# Altium integrated library Cypress PLD Flash370i.IntLib: 84 symbols (part 1 of 4)
Pins are listed as number, name and electrical type; pins without a type are passive.

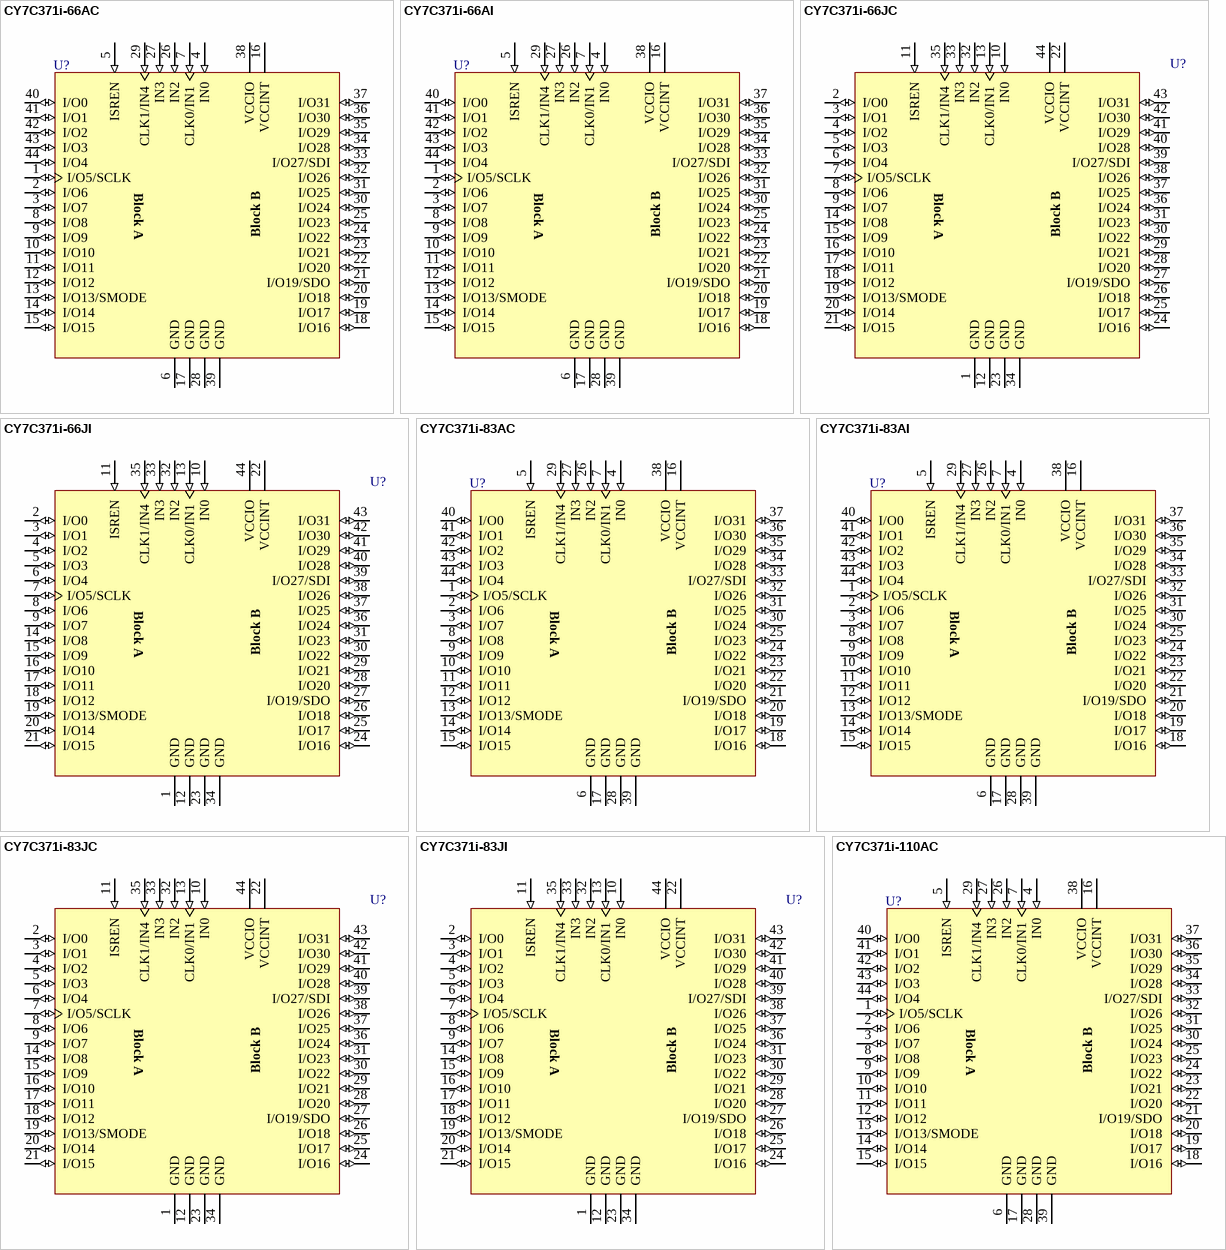
[diagram p0: symbols CY7C371i-66AC to CY7C371i-110AC]

## CY7C371i-66AC
designator U?
Ultralogic 32-Macrocell Flash CPLD; Published: 11-Dec-2002; LatestRevisionDate: 13-Apr-2006; LatestRevisionNote: IPC-7351 Footprint Added.; DatasheetVersion: 10-Jul-2000; PackageVersion: Mar-2002; PackageReference: A44; Publisher: Altium Limited; PackageDescription: 44-Pin Thin Plastic Quad Flat Pack 0.8 mm Pitch; ComponentLink1Description: Manufacturer Link; ComponentLink1URL: http://www.cypress.com/
footprint A44_N (Thin QFP, 44-Leads, Body 10x10mm, Pitch 0.8mm, IPC Medium Density)
footprint A44_L (Thin QFP, 44-Leads, Body 10x10mm, Pitch 0.8mm, IPC High Density)
footprint A44_M (Thin QFP, 44-Leads, Body 10x10mm, Pitch 0.8mm, IPC Low Density)
3D model CY7C371i-A44 (44-Pin Thin Plastic Quad Flat Pack 0.8 mm Pitch)
pins: 1 I/O5/SCLK (io), 2 I/O6 (io), 3 I/O7 (io), 4 IN0 (in), 5 ISREN (in), 6 GND (power), 7 CLK0/IN1 (in), 8 I/O8 (io), 9 I/O9 (io), 10 I/O10 (io), 11 I/O11 (io), 12 I/O12 (io), 13 I/O13/SMODE (io), 14 I/O14 (io), 15 I/O15 (io), 16 VCCINT (power), 17 GND (power), 18 I/O16 (io), 19 I/O17 (io), 20 I/O18 (io), 21 I/O19/SDO (io), 22 I/O20 (io), 23 I/O21 (io), 24 I/O22 (io), 25 I/O23 (io), 26 IN2 (in), 27 IN3 (in), 28 GND (power), 29 CLK1/IN4 (in), 30 I/O24 (io), 31 I/O25 (io), 32 I/O26 (io), 33 I/O27/SDI (io), 34 I/O28 (io), 35 I/O29 (io), 36 I/O30 (io), 37 I/O31 (io), 38 VCCIO (power), 39 GND (power), 40 I/O0 (io), 41 I/O1 (io), 42 I/O2 (io), 43 I/O3 (io), 44 I/O4 (io)
text: Block A; Block B

## CY7C371i-66AI
designator U?
Ultralogic 32-Macrocell Flash CPLD; Published: 11-Dec-2002; LatestRevisionDate: 13-Apr-2006; LatestRevisionNote: IPC-7351 Footprint Added.; DatasheetVersion: 10-Jul-2000; PackageVersion: Mar-2002; PackageReference: A44; Publisher: Altium Limited; PackageDescription: 44-Pin Thin Plastic Quad Flat Pack 0.8 mm Pitch; ComponentLink1Description: Manufacturer Link; ComponentLink1URL: http://www.cypress.com/
footprint A44_N (Thin QFP, 44-Leads, Body 10x10mm, Pitch 0.8mm, IPC Medium Density)
footprint A44_L (Thin QFP, 44-Leads, Body 10x10mm, Pitch 0.8mm, IPC High Density)
footprint A44_M (Thin QFP, 44-Leads, Body 10x10mm, Pitch 0.8mm, IPC Low Density)
3D model CY7C371i-A44 (44-Pin Thin Plastic Quad Flat Pack 0.8 mm Pitch)
pins: 1 I/O5/SCLK (io), 2 I/O6 (io), 3 I/O7 (io), 4 IN0 (in), 5 ISREN (in), 6 GND (power), 7 CLK0/IN1 (in), 8 I/O8 (io), 9 I/O9 (io), 10 I/O10 (io), 11 I/O11 (io), 12 I/O12 (io), 13 I/O13/SMODE (io), 14 I/O14 (io), 15 I/O15 (io), 16 VCCINT (power), 17 GND (power), 18 I/O16 (io), 19 I/O17 (io), 20 I/O18 (io), 21 I/O19/SDO (io), 22 I/O20 (io), 23 I/O21 (io), 24 I/O22 (io), 25 I/O23 (io), 26 IN2 (in), 27 IN3 (in), 28 GND (power), 29 CLK1/IN4 (in), 30 I/O24 (io), 31 I/O25 (io), 32 I/O26 (io), 33 I/O27/SDI (io), 34 I/O28 (io), 35 I/O29 (io), 36 I/O30 (io), 37 I/O31 (io), 38 VCCIO (power), 39 GND (power), 40 I/O0 (io), 41 I/O1 (io), 42 I/O2 (io), 43 I/O3 (io), 44 I/O4 (io)
text: Block A; Block B

## CY7C371i-66JC
designator U?
Ultralogic 32-Macrocell Flash CPLD; Published: 11-Dec-2002; LatestRevisionDate: 13-Apr-2006; LatestRevisionNote: IPC-7351 Footprint Added.; DatasheetVersion: 10-Jul-2000; PackageVersion: Mar-2001; PackageReference: J67; Publisher: Altium Limited; PackageDescription: 44-Pin Plastic Leaded Chip Carrier 1.27 mm Pitch; ComponentLink1Description: Manufacturer Link; ComponentLink1URL: http://www.cypress.com/
footprint J67_N (Leaded Chip Carrier, 44-Leads, Body 16.6x16.6mm, Pitch 1.27mm, IPC Medium Density)
footprint J67_L (Leaded Chip Carrier, 44-Leads, Body 16.6x16.6mm, Pitch 1.27mm, IPC High Density)
footprint J67_M (Leaded Chip Carrier, 44-Leads, Body 16.6x16.6mm, Pitch 1.27mm, IPC Low Density)
3D model CY7C371i-J67 (44-Pin Plastic Leaded Chip Carrier 1.27 mm Pitch)
pins: 1 GND (power), 2 I/O0 (io), 3 I/O1 (io), 4 I/O2 (io), 5 I/O3 (io), 6 I/O4 (io), 7 I/O5/SCLK (io), 8 I/O6 (io), 9 I/O7 (io), 10 IN0 (in), 11 ISREN (in), 12 GND (power), 13 CLK0/IN1 (in), 14 I/O8 (io), 15 I/O9 (io), 16 I/O10 (io), 17 I/O11 (io), 18 I/O12 (io), 19 I/O13/SMODE (io), 20 I/O14 (io), 21 I/O15 (io), 22 VCCINT (power), 23 GND (power), 24 I/O16 (io), 25 I/O17 (io), 26 I/O18 (io), 27 I/O19/SDO (io), 28 I/O20 (io), 29 I/O21 (io), 30 I/O22 (io), 31 I/O23 (io), 32 IN2 (in), 33 IN3 (in), 34 GND (power), 35 CLK1/IN4 (in), 36 I/O24 (io), 37 I/O25 (io), 38 I/O26 (io), 39 I/O27/SDI (io), 40 I/O28 (io), 41 I/O29 (io), 42 I/O30 (io), 43 I/O31 (io), 44 VCCIO (power)
text: Block A; Block B

## CY7C371i-66JI
designator U?
Ultralogic 32-Macrocell Flash CPLD; Published: 11-Dec-2002; LatestRevisionDate: 13-Apr-2006; LatestRevisionNote: IPC-7351 Footprint Added.; DatasheetVersion: 10-Jul-2000; PackageVersion: Mar-2001; PackageReference: J67; Publisher: Altium Limited; PackageDescription: 44-Pin Plastic Leaded Chip Carrier 1.27 mm Pitch; ComponentLink1Description: Manufacturer Link; ComponentLink1URL: http://www.cypress.com/
footprint J67_N (Leaded Chip Carrier, 44-Leads, Body 16.6x16.6mm, Pitch 1.27mm, IPC Medium Density)
footprint J67_L (Leaded Chip Carrier, 44-Leads, Body 16.6x16.6mm, Pitch 1.27mm, IPC High Density)
footprint J67_M (Leaded Chip Carrier, 44-Leads, Body 16.6x16.6mm, Pitch 1.27mm, IPC Low Density)
3D model CY7C371i-J67 (44-Pin Plastic Leaded Chip Carrier 1.27 mm Pitch)
pins: 1 GND (power), 2 I/O0 (io), 3 I/O1 (io), 4 I/O2 (io), 5 I/O3 (io), 6 I/O4 (io), 7 I/O5/SCLK (io), 8 I/O6 (io), 9 I/O7 (io), 10 IN0 (in), 11 ISREN (in), 12 GND (power), 13 CLK0/IN1 (in), 14 I/O8 (io), 15 I/O9 (io), 16 I/O10 (io), 17 I/O11 (io), 18 I/O12 (io), 19 I/O13/SMODE (io), 20 I/O14 (io), 21 I/O15 (io), 22 VCCINT (power), 23 GND (power), 24 I/O16 (io), 25 I/O17 (io), 26 I/O18 (io), 27 I/O19/SDO (io), 28 I/O20 (io), 29 I/O21 (io), 30 I/O22 (io), 31 I/O23 (io), 32 IN2 (in), 33 IN3 (in), 34 GND (power), 35 CLK1/IN4 (in), 36 I/O24 (io), 37 I/O25 (io), 38 I/O26 (io), 39 I/O27/SDI (io), 40 I/O28 (io), 41 I/O29 (io), 42 I/O30 (io), 43 I/O31 (io), 44 VCCIO (power)
text: Block A; Block B

## CY7C371i-83AC
designator U?
Ultralogic 32-Macrocell Flash CPLD; Published: 11-Dec-2002; LatestRevisionDate: 13-Apr-2006; LatestRevisionNote: IPC-7351 Footprint Added.; DatasheetVersion: 10-Jul-2000; PackageVersion: Mar-2002; PackageReference: A44; Publisher: Altium Limited; PackageDescription: 44-Pin Thin Plastic Quad Flat Pack 0.8 mm Pitch; ComponentLink1Description: Manufacturer Link; ComponentLink1URL: http://www.cypress.com/
footprint A44_N (Thin QFP, 44-Leads, Body 10x10mm, Pitch 0.8mm, IPC Medium Density)
footprint A44_L (Thin QFP, 44-Leads, Body 10x10mm, Pitch 0.8mm, IPC High Density)
footprint A44_M (Thin QFP, 44-Leads, Body 10x10mm, Pitch 0.8mm, IPC Low Density)
3D model CY7C371i-A44 (44-Pin Thin Plastic Quad Flat Pack 0.8 mm Pitch)
pins: 1 I/O5/SCLK (io), 2 I/O6 (io), 3 I/O7 (io), 4 IN0 (in), 5 ISREN (in), 6 GND (power), 7 CLK0/IN1 (in), 8 I/O8 (io), 9 I/O9 (io), 10 I/O10 (io), 11 I/O11 (io), 12 I/O12 (io), 13 I/O13/SMODE (io), 14 I/O14 (io), 15 I/O15 (io), 16 VCCINT (power), 17 GND (power), 18 I/O16 (io), 19 I/O17 (io), 20 I/O18 (io), 21 I/O19/SDO (io), 22 I/O20 (io), 23 I/O21 (io), 24 I/O22 (io), 25 I/O23 (io), 26 IN2 (in), 27 IN3 (in), 28 GND (power), 29 CLK1/IN4 (in), 30 I/O24 (io), 31 I/O25 (io), 32 I/O26 (io), 33 I/O27/SDI (io), 34 I/O28 (io), 35 I/O29 (io), 36 I/O30 (io), 37 I/O31 (io), 38 VCCIO (power), 39 GND (power), 40 I/O0 (io), 41 I/O1 (io), 42 I/O2 (io), 43 I/O3 (io), 44 I/O4 (io)
text: Block A; Block B

## CY7C371i-83AI
designator U?
Ultralogic 32-Macrocell Flash CPLD; Published: 11-Dec-2002; LatestRevisionDate: 13-Apr-2006; LatestRevisionNote: IPC-7351 Footprint Added.; DatasheetVersion: 10-Jul-2000; PackageVersion: Mar-2002; PackageReference: A44; Publisher: Altium Limited; PackageDescription: 44-Pin Thin Plastic Quad Flat Pack 0.8 mm Pitch; ComponentLink1Description: Manufacturer Link; ComponentLink1URL: http://www.cypress.com/
footprint A44_N (Thin QFP, 44-Leads, Body 10x10mm, Pitch 0.8mm, IPC Medium Density)
footprint A44_L (Thin QFP, 44-Leads, Body 10x10mm, Pitch 0.8mm, IPC High Density)
footprint A44_M (Thin QFP, 44-Leads, Body 10x10mm, Pitch 0.8mm, IPC Low Density)
3D model CY7C371i-A44 (44-Pin Thin Plastic Quad Flat Pack 0.8 mm Pitch)
pins: 1 I/O5/SCLK (io), 2 I/O6 (io), 3 I/O7 (io), 4 IN0 (in), 5 ISREN (in), 6 GND (power), 7 CLK0/IN1 (in), 8 I/O8 (io), 9 I/O9 (io), 10 I/O10 (io), 11 I/O11 (io), 12 I/O12 (io), 13 I/O13/SMODE (io), 14 I/O14 (io), 15 I/O15 (io), 16 VCCINT (power), 17 GND (power), 18 I/O16 (io), 19 I/O17 (io), 20 I/O18 (io), 21 I/O19/SDO (io), 22 I/O20 (io), 23 I/O21 (io), 24 I/O22 (io), 25 I/O23 (io), 26 IN2 (in), 27 IN3 (in), 28 GND (power), 29 CLK1/IN4 (in), 30 I/O24 (io), 31 I/O25 (io), 32 I/O26 (io), 33 I/O27/SDI (io), 34 I/O28 (io), 35 I/O29 (io), 36 I/O30 (io), 37 I/O31 (io), 38 VCCIO (power), 39 GND (power), 40 I/O0 (io), 41 I/O1 (io), 42 I/O2 (io), 43 I/O3 (io), 44 I/O4 (io)
text: Block A; Block B

## CY7C371i-83JC
designator U?
Ultralogic 32-Macrocell Flash CPLD; Published: 11-Dec-2002; LatestRevisionDate: 13-Apr-2006; LatestRevisionNote: IPC-7351 Footprint Added.; DatasheetVersion: 10-Jul-2000; PackageVersion: Mar-2001; PackageReference: J67; Publisher: Altium Limited; PackageDescription: 44-Pin Plastic Leaded Chip Carrier 1.27 mm Pitch; ComponentLink1Description: Manufacturer Link; ComponentLink1URL: http://www.cypress.com/
footprint J67_N (Leaded Chip Carrier, 44-Leads, Body 16.6x16.6mm, Pitch 1.27mm, IPC Medium Density)
footprint J67_L (Leaded Chip Carrier, 44-Leads, Body 16.6x16.6mm, Pitch 1.27mm, IPC High Density)
footprint J67_M (Leaded Chip Carrier, 44-Leads, Body 16.6x16.6mm, Pitch 1.27mm, IPC Low Density)
3D model CY7C371i-J67 (44-Pin Plastic Leaded Chip Carrier 1.27 mm Pitch)
pins: 1 GND (power), 2 I/O0 (io), 3 I/O1 (io), 4 I/O2 (io), 5 I/O3 (io), 6 I/O4 (io), 7 I/O5/SCLK (io), 8 I/O6 (io), 9 I/O7 (io), 10 IN0 (in), 11 ISREN (in), 12 GND (power), 13 CLK0/IN1 (in), 14 I/O8 (io), 15 I/O9 (io), 16 I/O10 (io), 17 I/O11 (io), 18 I/O12 (io), 19 I/O13/SMODE (io), 20 I/O14 (io), 21 I/O15 (io), 22 VCCINT (power), 23 GND (power), 24 I/O16 (io), 25 I/O17 (io), 26 I/O18 (io), 27 I/O19/SDO (io), 28 I/O20 (io), 29 I/O21 (io), 30 I/O22 (io), 31 I/O23 (io), 32 IN2 (in), 33 IN3 (in), 34 GND (power), 35 CLK1/IN4 (in), 36 I/O24 (io), 37 I/O25 (io), 38 I/O26 (io), 39 I/O27/SDI (io), 40 I/O28 (io), 41 I/O29 (io), 42 I/O30 (io), 43 I/O31 (io), 44 VCCIO (power)
text: Block A; Block B

## CY7C371i-83JI
designator U?
Ultralogic 32-Macrocell Flash CPLD; Published: 11-Dec-2002; LatestRevisionDate: 13-Apr-2006; LatestRevisionNote: IPC-7351 Footprint Added.; DatasheetVersion: 10-Jul-2000; PackageVersion: Mar-2001; PackageReference: J67; Publisher: Altium Limited; PackageDescription: 44-Pin Plastic Leaded Chip Carrier 1.27 mm Pitch; ComponentLink1Description: Manufacturer Link; ComponentLink1URL: http://www.cypress.com/
footprint J67_N (Leaded Chip Carrier, 44-Leads, Body 16.6x16.6mm, Pitch 1.27mm, IPC Medium Density)
footprint J67_L (Leaded Chip Carrier, 44-Leads, Body 16.6x16.6mm, Pitch 1.27mm, IPC High Density)
footprint J67_M (Leaded Chip Carrier, 44-Leads, Body 16.6x16.6mm, Pitch 1.27mm, IPC Low Density)
3D model CY7C371i-J67 (44-Pin Plastic Leaded Chip Carrier 1.27 mm Pitch)
pins: 1 GND (power), 2 I/O0 (io), 3 I/O1 (io), 4 I/O2 (io), 5 I/O3 (io), 6 I/O4 (io), 7 I/O5/SCLK (io), 8 I/O6 (io), 9 I/O7 (io), 10 IN0 (in), 11 ISREN (in), 12 GND (power), 13 CLK0/IN1 (in), 14 I/O8 (io), 15 I/O9 (io), 16 I/O10 (io), 17 I/O11 (io), 18 I/O12 (io), 19 I/O13/SMODE (io), 20 I/O14 (io), 21 I/O15 (io), 22 VCCINT (power), 23 GND (power), 24 I/O16 (io), 25 I/O17 (io), 26 I/O18 (io), 27 I/O19/SDO (io), 28 I/O20 (io), 29 I/O21 (io), 30 I/O22 (io), 31 I/O23 (io), 32 IN2 (in), 33 IN3 (in), 34 GND (power), 35 CLK1/IN4 (in), 36 I/O24 (io), 37 I/O25 (io), 38 I/O26 (io), 39 I/O27/SDI (io), 40 I/O28 (io), 41 I/O29 (io), 42 I/O30 (io), 43 I/O31 (io), 44 VCCIO (power)
text: Block A; Block B

## CY7C371i-110AC
designator U?
Ultralogic 32-Macrocell Flash CPLD; Published: 11-Dec-2002; LatestRevisionDate: 13-Apr-2006; LatestRevisionNote: IPC-7351 Footprint Added.; DatasheetVersion: 10-Jul-2000; PackageVersion: Mar-2002; PackageReference: A44; Publisher: Altium Limited; PackageDescription: 44-Pin Thin Plastic Quad Flat Pack 0.8 mm Pitch; ComponentLink1Description: Manufacturer Link; ComponentLink1URL: http://www.cypress.com/
footprint A44_N (Thin QFP, 44-Leads, Body 10x10mm, Pitch 0.8mm, IPC Medium Density)
footprint A44_L (Thin QFP, 44-Leads, Body 10x10mm, Pitch 0.8mm, IPC High Density)
footprint A44_M (Thin QFP, 44-Leads, Body 10x10mm, Pitch 0.8mm, IPC Low Density)
3D model CY7C371i-A44 (44-Pin Thin Plastic Quad Flat Pack 0.8 mm Pitch)
pins: 1 I/O5/SCLK (io), 2 I/O6 (io), 3 I/O7 (io), 4 IN0 (in), 5 ISREN (in), 6 GND (power), 7 CLK0/IN1 (in), 8 I/O8 (io), 9 I/O9 (io), 10 I/O10 (io), 11 I/O11 (io), 12 I/O12 (io), 13 I/O13/SMODE (io), 14 I/O14 (io), 15 I/O15 (io), 16 VCCINT (power), 17 GND (power), 18 I/O16 (io), 19 I/O17 (io), 20 I/O18 (io), 21 I/O19/SDO (io), 22 I/O20 (io), 23 I/O21 (io), 24 I/O22 (io), 25 I/O23 (io), 26 IN2 (in), 27 IN3 (in), 28 GND (power), 29 CLK1/IN4 (in), 30 I/O24 (io), 31 I/O25 (io), 32 I/O26 (io), 33 I/O27/SDI (io), 34 I/O28 (io), 35 I/O29 (io), 36 I/O30 (io), 37 I/O31 (io), 38 VCCIO (power), 39 GND (power), 40 I/O0 (io), 41 I/O1 (io), 42 I/O2 (io), 43 I/O3 (io), 44 I/O4 (io)
text: Block A; Block B

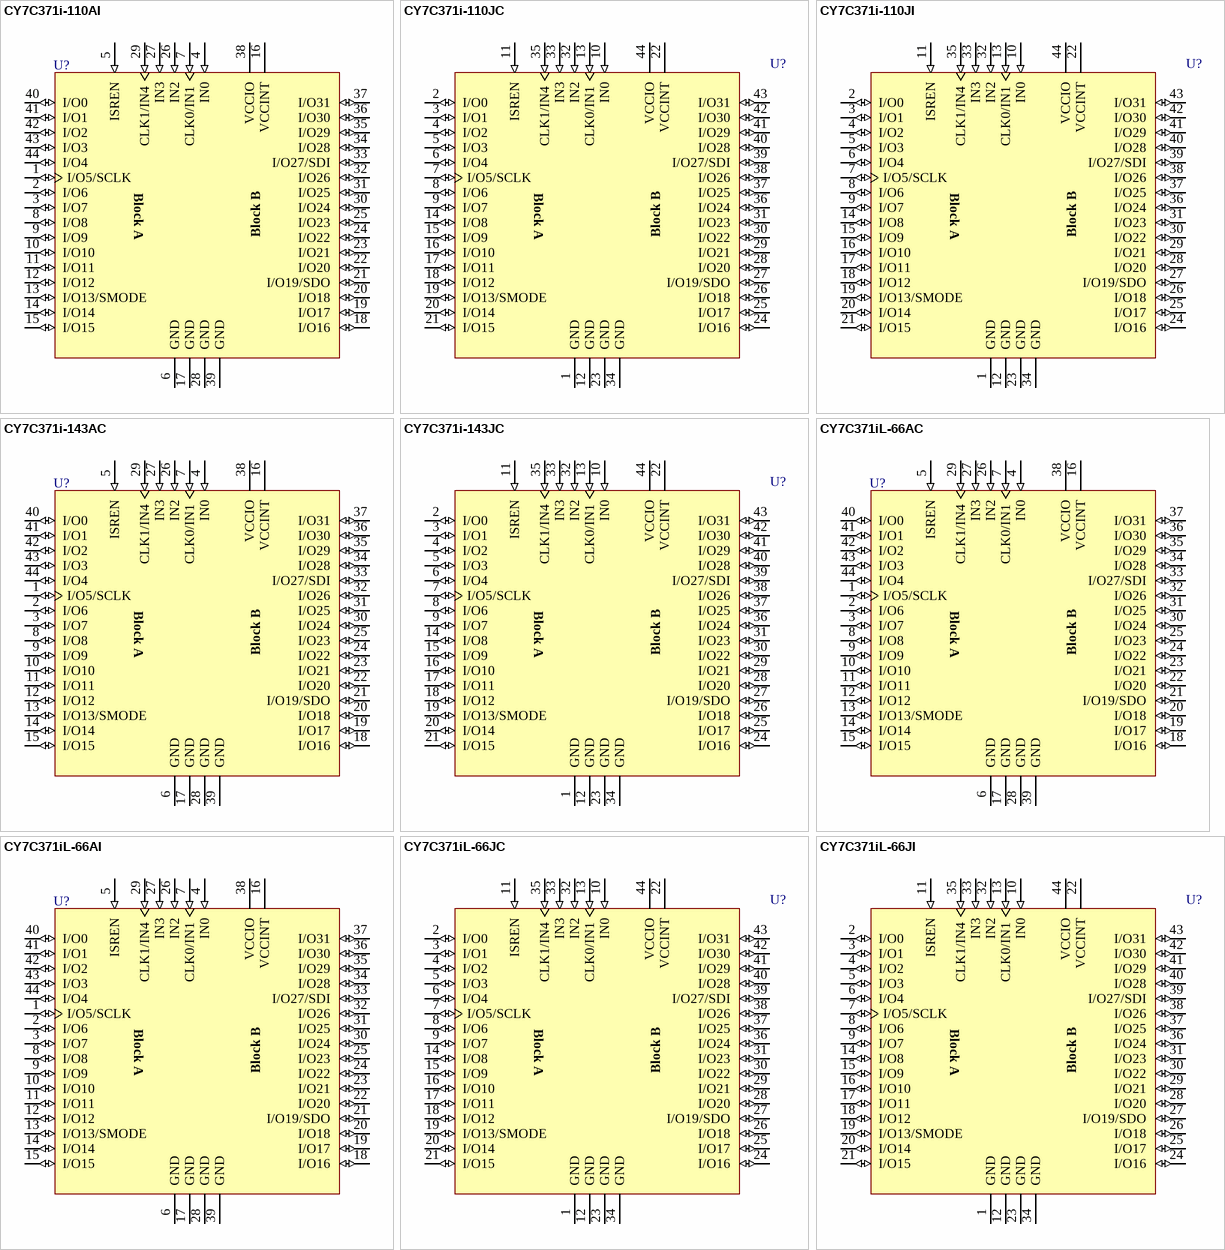
[diagram p1: symbols CY7C371i-110AI to CY7C371iL-66JI]

## CY7C371i-110AI
designator U?
Ultralogic 32-Macrocell Flash CPLD; Published: 11-Dec-2002; LatestRevisionDate: 13-Apr-2006; LatestRevisionNote: IPC-7351 Footprint Added.; DatasheetVersion: 10-Jul-2000; PackageVersion: Mar-2002; PackageReference: A44; Publisher: Altium Limited; PackageDescription: 44-Pin Thin Plastic Quad Flat Pack 0.8 mm Pitch; ComponentLink1Description: Manufacturer Link; ComponentLink1URL: http://www.cypress.com/
footprint A44_N (Thin QFP, 44-Leads, Body 10x10mm, Pitch 0.8mm, IPC Medium Density)
footprint A44_L (Thin QFP, 44-Leads, Body 10x10mm, Pitch 0.8mm, IPC High Density)
footprint A44_M (Thin QFP, 44-Leads, Body 10x10mm, Pitch 0.8mm, IPC Low Density)
3D model CY7C371i-A44 (44-Pin Thin Plastic Quad Flat Pack 0.8 mm Pitch)
pins: 1 I/O5/SCLK (io), 2 I/O6 (io), 3 I/O7 (io), 4 IN0 (in), 5 ISREN (in), 6 GND (power), 7 CLK0/IN1 (in), 8 I/O8 (io), 9 I/O9 (io), 10 I/O10 (io), 11 I/O11 (io), 12 I/O12 (io), 13 I/O13/SMODE (io), 14 I/O14 (io), 15 I/O15 (io), 16 VCCINT (power), 17 GND (power), 18 I/O16 (io), 19 I/O17 (io), 20 I/O18 (io), 21 I/O19/SDO (io), 22 I/O20 (io), 23 I/O21 (io), 24 I/O22 (io), 25 I/O23 (io), 26 IN2 (in), 27 IN3 (in), 28 GND (power), 29 CLK1/IN4 (in), 30 I/O24 (io), 31 I/O25 (io), 32 I/O26 (io), 33 I/O27/SDI (io), 34 I/O28 (io), 35 I/O29 (io), 36 I/O30 (io), 37 I/O31 (io), 38 VCCIO (power), 39 GND (power), 40 I/O0 (io), 41 I/O1 (io), 42 I/O2 (io), 43 I/O3 (io), 44 I/O4 (io)
text: Block A; Block B

## CY7C371i-110JC
designator U?
Ultralogic 32-Macrocell Flash CPLD; Published: 11-Dec-2002; LatestRevisionDate: 13-Apr-2006; LatestRevisionNote: IPC-7351 Footprint Added.; DatasheetVersion: 10-Jul-2000; PackageVersion: Mar-2001; PackageReference: J67; Publisher: Altium Limited; PackageDescription: 44-Pin Plastic Leaded Chip Carrier 1.27 mm Pitch; ComponentLink1Description: Manufacturer Link; ComponentLink1URL: http://www.cypress.com/
footprint J67_N (Leaded Chip Carrier, 44-Leads, Body 16.6x16.6mm, Pitch 1.27mm, IPC Medium Density)
footprint J67_L (Leaded Chip Carrier, 44-Leads, Body 16.6x16.6mm, Pitch 1.27mm, IPC High Density)
footprint J67_M (Leaded Chip Carrier, 44-Leads, Body 16.6x16.6mm, Pitch 1.27mm, IPC Low Density)
3D model CY7C371i-J67 (44-Pin Plastic Leaded Chip Carrier 1.27 mm Pitch)
pins: 1 GND (power), 2 I/O0 (io), 3 I/O1 (io), 4 I/O2 (io), 5 I/O3 (io), 6 I/O4 (io), 7 I/O5/SCLK (io), 8 I/O6 (io), 9 I/O7 (io), 10 IN0 (in), 11 ISREN (in), 12 GND (power), 13 CLK0/IN1 (in), 14 I/O8 (io), 15 I/O9 (io), 16 I/O10 (io), 17 I/O11 (io), 18 I/O12 (io), 19 I/O13/SMODE (io), 20 I/O14 (io), 21 I/O15 (io), 22 VCCINT (power), 23 GND (power), 24 I/O16 (io), 25 I/O17 (io), 26 I/O18 (io), 27 I/O19/SDO (io), 28 I/O20 (io), 29 I/O21 (io), 30 I/O22 (io), 31 I/O23 (io), 32 IN2 (in), 33 IN3 (in), 34 GND (power), 35 CLK1/IN4 (in), 36 I/O24 (io), 37 I/O25 (io), 38 I/O26 (io), 39 I/O27/SDI (io), 40 I/O28 (io), 41 I/O29 (io), 42 I/O30 (io), 43 I/O31 (io), 44 VCCIO (power)
text: Block A; Block B

## CY7C371i-110JI
designator U?
Ultralogic 32-Macrocell Flash CPLD; Published: 11-Dec-2002; LatestRevisionDate: 13-Apr-2006; LatestRevisionNote: IPC-7351 Footprint Added.; DatasheetVersion: 10-Jul-2000; PackageVersion: Mar-2001; PackageReference: J67; Publisher: Altium Limited; PackageDescription: 44-Pin Plastic Leaded Chip Carrier 1.27 mm Pitch; ComponentLink1Description: Manufacturer Link; ComponentLink1URL: http://www.cypress.com/
footprint J67_N (Leaded Chip Carrier, 44-Leads, Body 16.6x16.6mm, Pitch 1.27mm, IPC Medium Density)
footprint J67_L (Leaded Chip Carrier, 44-Leads, Body 16.6x16.6mm, Pitch 1.27mm, IPC High Density)
footprint J67_M (Leaded Chip Carrier, 44-Leads, Body 16.6x16.6mm, Pitch 1.27mm, IPC Low Density)
3D model CY7C371i-J67 (44-Pin Plastic Leaded Chip Carrier 1.27 mm Pitch)
pins: 1 GND (power), 2 I/O0 (io), 3 I/O1 (io), 4 I/O2 (io), 5 I/O3 (io), 6 I/O4 (io), 7 I/O5/SCLK (io), 8 I/O6 (io), 9 I/O7 (io), 10 IN0 (in), 11 ISREN (in), 12 GND (power), 13 CLK0/IN1 (in), 14 I/O8 (io), 15 I/O9 (io), 16 I/O10 (io), 17 I/O11 (io), 18 I/O12 (io), 19 I/O13/SMODE (io), 20 I/O14 (io), 21 I/O15 (io), 22 VCCINT (power), 23 GND (power), 24 I/O16 (io), 25 I/O17 (io), 26 I/O18 (io), 27 I/O19/SDO (io), 28 I/O20 (io), 29 I/O21 (io), 30 I/O22 (io), 31 I/O23 (io), 32 IN2 (in), 33 IN3 (in), 34 GND (power), 35 CLK1/IN4 (in), 36 I/O24 (io), 37 I/O25 (io), 38 I/O26 (io), 39 I/O27/SDI (io), 40 I/O28 (io), 41 I/O29 (io), 42 I/O30 (io), 43 I/O31 (io), 44 VCCIO (power)
text: Block A; Block B

## CY7C371i-143AC
designator U?
Ultralogic 32-Macrocell Flash CPLD; Published: 11-Dec-2002; LatestRevisionDate: 13-Apr-2006; LatestRevisionNote: IPC-7351 Footprint Added.; DatasheetVersion: 10-Jul-2000; PackageVersion: Mar-2002; PackageReference: A44; Publisher: Altium Limited; PackageDescription: 44-Pin Thin Plastic Quad Flat Pack 0.8 mm Pitch; ComponentLink1Description: Manufacturer Link; ComponentLink1URL: http://www.cypress.com/
footprint A44_N (Thin QFP, 44-Leads, Body 10x10mm, Pitch 0.8mm, IPC Medium Density)
footprint A44_L (Thin QFP, 44-Leads, Body 10x10mm, Pitch 0.8mm, IPC High Density)
footprint A44_M (Thin QFP, 44-Leads, Body 10x10mm, Pitch 0.8mm, IPC Low Density)
3D model CY7C371i-A44 (44-Pin Thin Plastic Quad Flat Pack 0.8 mm Pitch)
pins: 1 I/O5/SCLK (io), 2 I/O6 (io), 3 I/O7 (io), 4 IN0 (in), 5 ISREN (in), 6 GND (power), 7 CLK0/IN1 (in), 8 I/O8 (io), 9 I/O9 (io), 10 I/O10 (io), 11 I/O11 (io), 12 I/O12 (io), 13 I/O13/SMODE (io), 14 I/O14 (io), 15 I/O15 (io), 16 VCCINT (power), 17 GND (power), 18 I/O16 (io), 19 I/O17 (io), 20 I/O18 (io), 21 I/O19/SDO (io), 22 I/O20 (io), 23 I/O21 (io), 24 I/O22 (io), 25 I/O23 (io), 26 IN2 (in), 27 IN3 (in), 28 GND (power), 29 CLK1/IN4 (in), 30 I/O24 (io), 31 I/O25 (io), 32 I/O26 (io), 33 I/O27/SDI (io), 34 I/O28 (io), 35 I/O29 (io), 36 I/O30 (io), 37 I/O31 (io), 38 VCCIO (power), 39 GND (power), 40 I/O0 (io), 41 I/O1 (io), 42 I/O2 (io), 43 I/O3 (io), 44 I/O4 (io)
text: Block A; Block B

## CY7C371i-143JC
designator U?
Ultralogic 32-Macrocell Flash CPLD; Published: 11-Dec-2002; LatestRevisionDate: 13-Apr-2006; LatestRevisionNote: IPC-7351 Footprint Added.; DatasheetVersion: 10-Jul-2000; PackageVersion: Mar-2001; PackageReference: J67; Publisher: Altium Limited; PackageDescription: 44-Pin Plastic Leaded Chip Carrier 1.27 mm Pitch; ComponentLink1Description: Manufacturer Link; ComponentLink1URL: http://www.cypress.com/
footprint J67_N (Leaded Chip Carrier, 44-Leads, Body 16.6x16.6mm, Pitch 1.27mm, IPC Medium Density)
footprint J67_L (Leaded Chip Carrier, 44-Leads, Body 16.6x16.6mm, Pitch 1.27mm, IPC High Density)
footprint J67_M (Leaded Chip Carrier, 44-Leads, Body 16.6x16.6mm, Pitch 1.27mm, IPC Low Density)
3D model CY7C371i-J67 (44-Pin Plastic Leaded Chip Carrier 1.27 mm Pitch)
pins: 1 GND (power), 2 I/O0 (io), 3 I/O1 (io), 4 I/O2 (io), 5 I/O3 (io), 6 I/O4 (io), 7 I/O5/SCLK (io), 8 I/O6 (io), 9 I/O7 (io), 10 IN0 (in), 11 ISREN (in), 12 GND (power), 13 CLK0/IN1 (in), 14 I/O8 (io), 15 I/O9 (io), 16 I/O10 (io), 17 I/O11 (io), 18 I/O12 (io), 19 I/O13/SMODE (io), 20 I/O14 (io), 21 I/O15 (io), 22 VCCINT (power), 23 GND (power), 24 I/O16 (io), 25 I/O17 (io), 26 I/O18 (io), 27 I/O19/SDO (io), 28 I/O20 (io), 29 I/O21 (io), 30 I/O22 (io), 31 I/O23 (io), 32 IN2 (in), 33 IN3 (in), 34 GND (power), 35 CLK1/IN4 (in), 36 I/O24 (io), 37 I/O25 (io), 38 I/O26 (io), 39 I/O27/SDI (io), 40 I/O28 (io), 41 I/O29 (io), 42 I/O30 (io), 43 I/O31 (io), 44 VCCIO (power)
text: Block A; Block B

## CY7C371iL-66AC
designator U?
Ultralogic 32-Macrocell Flash CPLD; Published: 11-Dec-2002; LatestRevisionDate: 13-Apr-2006; LatestRevisionNote: IPC-7351 Footprint Added.; DatasheetVersion: 10-Jul-2000; PackageVersion: Mar-2002; PackageReference: A44; Publisher: Altium Limited; PackageDescription: 44-Pin Thin Plastic Quad Flat Pack 0.8 mm Pitch; ComponentLink1Description: Manufacturer Link; ComponentLink1URL: http://www.cypress.com/
footprint A44_N (Thin QFP, 44-Leads, Body 10x10mm, Pitch 0.8mm, IPC Medium Density)
footprint A44_L (Thin QFP, 44-Leads, Body 10x10mm, Pitch 0.8mm, IPC High Density)
footprint A44_M (Thin QFP, 44-Leads, Body 10x10mm, Pitch 0.8mm, IPC Low Density)
3D model CY7C371iL-A44 (44-Pin Thin Plastic Quad Flat Pack 0.8 mm Pitch)
pins: 1 I/O5/SCLK (io), 2 I/O6 (io), 3 I/O7 (io), 4 IN0 (in), 5 ISREN (in), 6 GND (power), 7 CLK0/IN1 (in), 8 I/O8 (io), 9 I/O9 (io), 10 I/O10 (io), 11 I/O11 (io), 12 I/O12 (io), 13 I/O13/SMODE (io), 14 I/O14 (io), 15 I/O15 (io), 16 VCCINT (power), 17 GND (power), 18 I/O16 (io), 19 I/O17 (io), 20 I/O18 (io), 21 I/O19/SDO (io), 22 I/O20 (io), 23 I/O21 (io), 24 I/O22 (io), 25 I/O23 (io), 26 IN2 (in), 27 IN3 (in), 28 GND (power), 29 CLK1/IN4 (in), 30 I/O24 (io), 31 I/O25 (io), 32 I/O26 (io), 33 I/O27/SDI (io), 34 I/O28 (io), 35 I/O29 (io), 36 I/O30 (io), 37 I/O31 (io), 38 VCCIO (power), 39 GND (power), 40 I/O0 (io), 41 I/O1 (io), 42 I/O2 (io), 43 I/O3 (io), 44 I/O4 (io)
text: Block A; Block B

## CY7C371iL-66AI
designator U?
Ultralogic 32-Macrocell Flash CPLD; Published: 11-Dec-2002; LatestRevisionDate: 13-Apr-2006; LatestRevisionNote: IPC-7351 Footprint Added.; DatasheetVersion: 10-Jul-2000; PackageVersion: Mar-2002; PackageReference: A44; Publisher: Altium Limited; PackageDescription: 44-Pin Thin Plastic Quad Flat Pack 0.8 mm Pitch; ComponentLink1Description: Manufacturer Link; ComponentLink1URL: http://www.cypress.com/
footprint A44_N (Thin QFP, 44-Leads, Body 10x10mm, Pitch 0.8mm, IPC Medium Density)
footprint A44_L (Thin QFP, 44-Leads, Body 10x10mm, Pitch 0.8mm, IPC High Density)
footprint A44_M (Thin QFP, 44-Leads, Body 10x10mm, Pitch 0.8mm, IPC Low Density)
3D model CY7C371iL-A44 (44-Pin Thin Plastic Quad Flat Pack 0.8 mm Pitch)
pins: 1 I/O5/SCLK (io), 2 I/O6 (io), 3 I/O7 (io), 4 IN0 (in), 5 ISREN (in), 6 GND (power), 7 CLK0/IN1 (in), 8 I/O8 (io), 9 I/O9 (io), 10 I/O10 (io), 11 I/O11 (io), 12 I/O12 (io), 13 I/O13/SMODE (io), 14 I/O14 (io), 15 I/O15 (io), 16 VCCINT (power), 17 GND (power), 18 I/O16 (io), 19 I/O17 (io), 20 I/O18 (io), 21 I/O19/SDO (io), 22 I/O20 (io), 23 I/O21 (io), 24 I/O22 (io), 25 I/O23 (io), 26 IN2 (in), 27 IN3 (in), 28 GND (power), 29 CLK1/IN4 (in), 30 I/O24 (io), 31 I/O25 (io), 32 I/O26 (io), 33 I/O27/SDI (io), 34 I/O28 (io), 35 I/O29 (io), 36 I/O30 (io), 37 I/O31 (io), 38 VCCIO (power), 39 GND (power), 40 I/O0 (io), 41 I/O1 (io), 42 I/O2 (io), 43 I/O3 (io), 44 I/O4 (io)
text: Block A; Block B

## CY7C371iL-66JC
designator U?
Ultralogic 32-Macrocell Flash CPLD; Published: 11-Dec-2002; LatestRevisionDate: 13-Apr-2006; LatestRevisionNote: IPC-7351 Footprint Added.; DatasheetVersion: 10-Jul-2000; PackageVersion: Mar-2001; PackageReference: J67; Publisher: Altium Limited; PackageDescription: 44-Pin Plastic Leaded Chip Carrier 1.27 mm Pitch; ComponentLink1Description: Manufacturer Link; ComponentLink1URL: http://www.cypress.com/
footprint J67_N (Leaded Chip Carrier, 44-Leads, Body 16.6x16.6mm, Pitch 1.27mm, IPC Medium Density)
footprint J67_L (Leaded Chip Carrier, 44-Leads, Body 16.6x16.6mm, Pitch 1.27mm, IPC High Density)
footprint J67_M (Leaded Chip Carrier, 44-Leads, Body 16.6x16.6mm, Pitch 1.27mm, IPC Low Density)
3D model CY7C371iL-J67 (44-Pin Plastic Leaded Chip Carrier 1.27 mm Pitch)
pins: 1 GND (power), 2 I/O0 (io), 3 I/O1 (io), 4 I/O2 (io), 5 I/O3 (io), 6 I/O4 (io), 7 I/O5/SCLK (io), 8 I/O6 (io), 9 I/O7 (io), 10 IN0 (in), 11 ISREN (in), 12 GND (power), 13 CLK0/IN1 (in), 14 I/O8 (io), 15 I/O9 (io), 16 I/O10 (io), 17 I/O11 (io), 18 I/O12 (io), 19 I/O13/SMODE (io), 20 I/O14 (io), 21 I/O15 (io), 22 VCCINT (power), 23 GND (power), 24 I/O16 (io), 25 I/O17 (io), 26 I/O18 (io), 27 I/O19/SDO (io), 28 I/O20 (io), 29 I/O21 (io), 30 I/O22 (io), 31 I/O23 (io), 32 IN2 (in), 33 IN3 (in), 34 GND (power), 35 CLK1/IN4 (in), 36 I/O24 (io), 37 I/O25 (io), 38 I/O26 (io), 39 I/O27/SDI (io), 40 I/O28 (io), 41 I/O29 (io), 42 I/O30 (io), 43 I/O31 (io), 44 VCCIO (power)
text: Block A; Block B

## CY7C371iL-66JI
designator U?
Ultralogic 32-Macrocell Flash CPLD; Published: 11-Dec-2002; LatestRevisionDate: 13-Apr-2006; LatestRevisionNote: IPC-7351 Footprint Added.; DatasheetVersion: 10-Jul-2000; PackageVersion: Mar-2001; PackageReference: J67; Publisher: Altium Limited; PackageDescription: 44-Pin Plastic Leaded Chip Carrier 1.27 mm Pitch; ComponentLink1Description: Manufacturer Link; ComponentLink1URL: http://www.cypress.com/
footprint J67_N (Leaded Chip Carrier, 44-Leads, Body 16.6x16.6mm, Pitch 1.27mm, IPC Medium Density)
footprint J67_L (Leaded Chip Carrier, 44-Leads, Body 16.6x16.6mm, Pitch 1.27mm, IPC High Density)
footprint J67_M (Leaded Chip Carrier, 44-Leads, Body 16.6x16.6mm, Pitch 1.27mm, IPC Low Density)
3D model CY7C371iL-J67 (44-Pin Plastic Leaded Chip Carrier 1.27 mm Pitch)
pins: 1 GND (power), 2 I/O0 (io), 3 I/O1 (io), 4 I/O2 (io), 5 I/O3 (io), 6 I/O4 (io), 7 I/O5/SCLK (io), 8 I/O6 (io), 9 I/O7 (io), 10 IN0 (in), 11 ISREN (in), 12 GND (power), 13 CLK0/IN1 (in), 14 I/O8 (io), 15 I/O9 (io), 16 I/O10 (io), 17 I/O11 (io), 18 I/O12 (io), 19 I/O13/SMODE (io), 20 I/O14 (io), 21 I/O15 (io), 22 VCCINT (power), 23 GND (power), 24 I/O16 (io), 25 I/O17 (io), 26 I/O18 (io), 27 I/O19/SDO (io), 28 I/O20 (io), 29 I/O21 (io), 30 I/O22 (io), 31 I/O23 (io), 32 IN2 (in), 33 IN3 (in), 34 GND (power), 35 CLK1/IN4 (in), 36 I/O24 (io), 37 I/O25 (io), 38 I/O26 (io), 39 I/O27/SDI (io), 40 I/O28 (io), 41 I/O29 (io), 42 I/O30 (io), 43 I/O31 (io), 44 VCCIO (power)
text: Block A; Block B

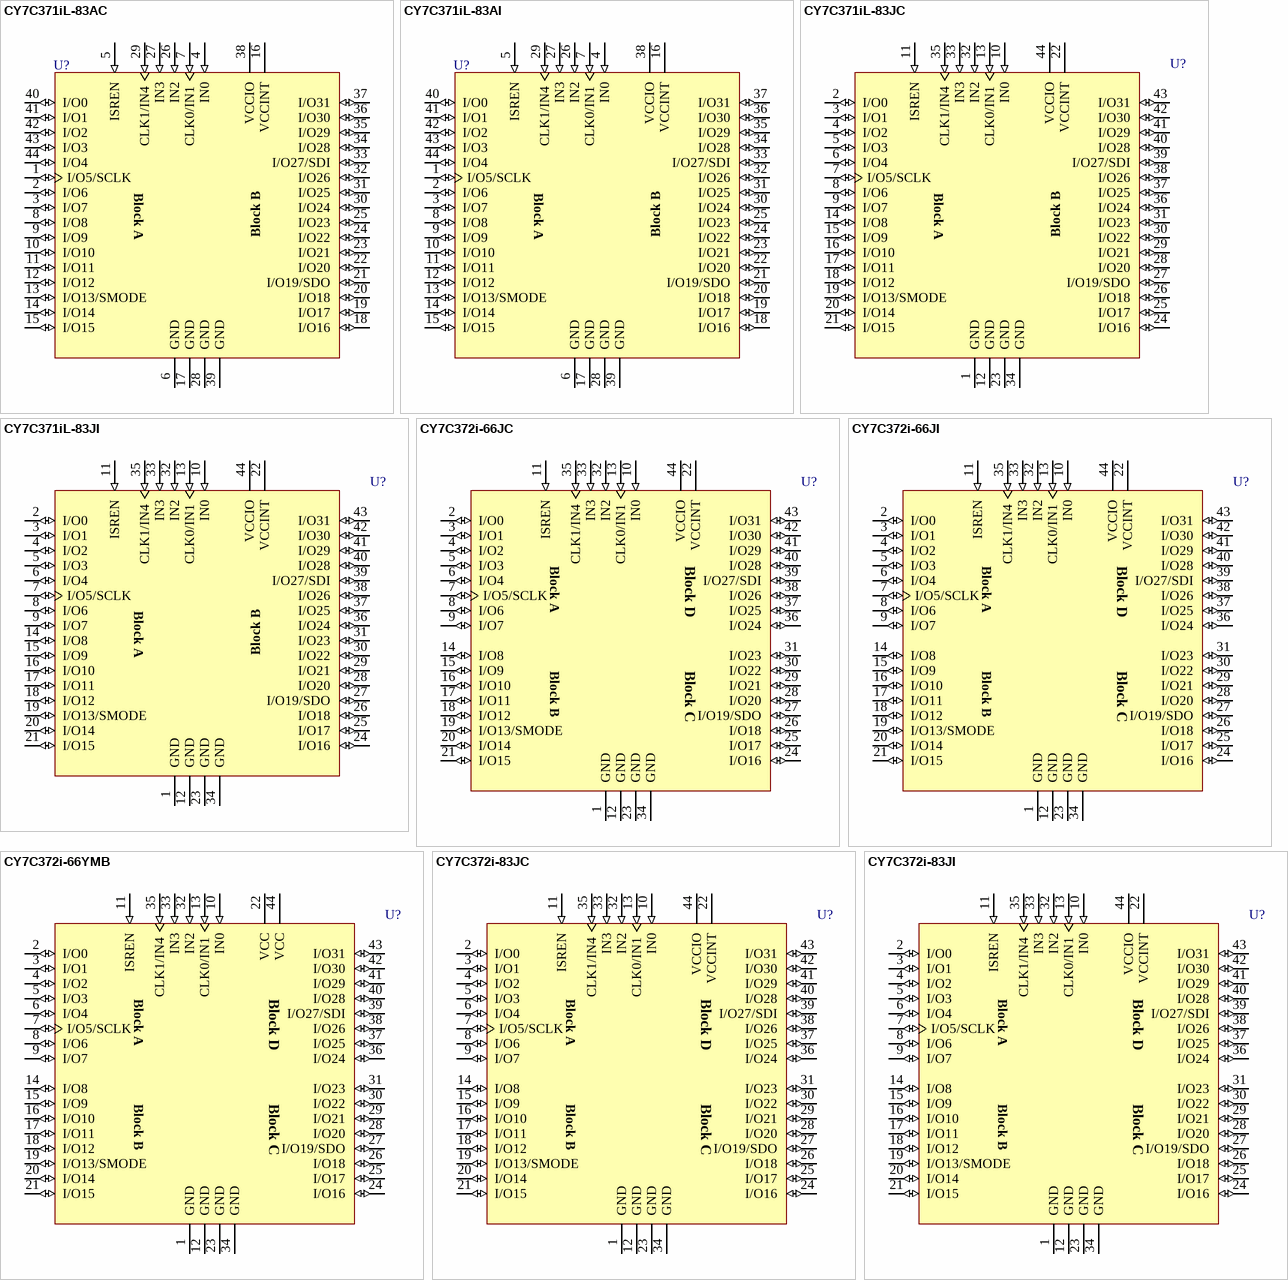
[diagram p2: symbols CY7C371iL-83AC to CY7C372i-83JI]

## CY7C371iL-83AC
designator U?
Ultralogic 32-Macrocell Flash CPLD; Published: 11-Dec-2002; LatestRevisionDate: 13-Apr-2006; LatestRevisionNote: IPC-7351 Footprint Added.; DatasheetVersion: 10-Jul-2000; PackageVersion: Mar-2002; PackageReference: A44; Publisher: Altium Limited; PackageDescription: 44-Pin Thin Plastic Quad Flat Pack 0.8 mm Pitch; ComponentLink1Description: Manufacturer Link; ComponentLink1URL: http://www.cypress.com/
footprint A44_N (Thin QFP, 44-Leads, Body 10x10mm, Pitch 0.8mm, IPC Medium Density)
footprint A44_L (Thin QFP, 44-Leads, Body 10x10mm, Pitch 0.8mm, IPC High Density)
footprint A44_M (Thin QFP, 44-Leads, Body 10x10mm, Pitch 0.8mm, IPC Low Density)
3D model CY7C371iL-A44 (44-Pin Thin Plastic Quad Flat Pack 0.8 mm Pitch)
pins: 1 I/O5/SCLK (io), 2 I/O6 (io), 3 I/O7 (io), 4 IN0 (in), 5 ISREN (in), 6 GND (power), 7 CLK0/IN1 (in), 8 I/O8 (io), 9 I/O9 (io), 10 I/O10 (io), 11 I/O11 (io), 12 I/O12 (io), 13 I/O13/SMODE (io), 14 I/O14 (io), 15 I/O15 (io), 16 VCCINT (power), 17 GND (power), 18 I/O16 (io), 19 I/O17 (io), 20 I/O18 (io), 21 I/O19/SDO (io), 22 I/O20 (io), 23 I/O21 (io), 24 I/O22 (io), 25 I/O23 (io), 26 IN2 (in), 27 IN3 (in), 28 GND (power), 29 CLK1/IN4 (in), 30 I/O24 (io), 31 I/O25 (io), 32 I/O26 (io), 33 I/O27/SDI (io), 34 I/O28 (io), 35 I/O29 (io), 36 I/O30 (io), 37 I/O31 (io), 38 VCCIO (power), 39 GND (power), 40 I/O0 (io), 41 I/O1 (io), 42 I/O2 (io), 43 I/O3 (io), 44 I/O4 (io)
text: Block A; Block B

## CY7C371iL-83AI
designator U?
Ultralogic 32-Macrocell Flash CPLD; Published: 11-Dec-2002; LatestRevisionDate: 13-Apr-2006; LatestRevisionNote: IPC-7351 Footprint Added.; DatasheetVersion: 10-Jul-2000; PackageVersion: Mar-2002; PackageReference: A44; Publisher: Altium Limited; PackageDescription: 44-Pin Thin Plastic Quad Flat Pack 0.8 mm Pitch; ComponentLink1Description: Manufacturer Link; ComponentLink1URL: http://www.cypress.com/
footprint A44_N (Thin QFP, 44-Leads, Body 10x10mm, Pitch 0.8mm, IPC Medium Density)
footprint A44_L (Thin QFP, 44-Leads, Body 10x10mm, Pitch 0.8mm, IPC High Density)
footprint A44_M (Thin QFP, 44-Leads, Body 10x10mm, Pitch 0.8mm, IPC Low Density)
3D model CY7C371iL-A44 (44-Pin Thin Plastic Quad Flat Pack 0.8 mm Pitch)
pins: 1 I/O5/SCLK (io), 2 I/O6 (io), 3 I/O7 (io), 4 IN0 (in), 5 ISREN (in), 6 GND (power), 7 CLK0/IN1 (in), 8 I/O8 (io), 9 I/O9 (io), 10 I/O10 (io), 11 I/O11 (io), 12 I/O12 (io), 13 I/O13/SMODE (io), 14 I/O14 (io), 15 I/O15 (io), 16 VCCINT (power), 17 GND (power), 18 I/O16 (io), 19 I/O17 (io), 20 I/O18 (io), 21 I/O19/SDO (io), 22 I/O20 (io), 23 I/O21 (io), 24 I/O22 (io), 25 I/O23 (io), 26 IN2 (in), 27 IN3 (in), 28 GND (power), 29 CLK1/IN4 (in), 30 I/O24 (io), 31 I/O25 (io), 32 I/O26 (io), 33 I/O27/SDI (io), 34 I/O28 (io), 35 I/O29 (io), 36 I/O30 (io), 37 I/O31 (io), 38 VCCIO (power), 39 GND (power), 40 I/O0 (io), 41 I/O1 (io), 42 I/O2 (io), 43 I/O3 (io), 44 I/O4 (io)
text: Block A; Block B

## CY7C371iL-83JC
designator U?
Ultralogic 32-Macrocell Flash CPLD; Published: 11-Dec-2002; LatestRevisionDate: 13-Apr-2006; LatestRevisionNote: IPC-7351 Footprint Added.; DatasheetVersion: 10-Jul-2000; PackageVersion: Mar-2001; PackageReference: J67; Publisher: Altium Limited; PackageDescription: 44-Pin Plastic Leaded Chip Carrier 1.27 mm Pitch; ComponentLink1Description: Manufacturer Link; ComponentLink1URL: http://www.cypress.com/
footprint J67_N (Leaded Chip Carrier, 44-Leads, Body 16.6x16.6mm, Pitch 1.27mm, IPC Medium Density)
footprint J67_L (Leaded Chip Carrier, 44-Leads, Body 16.6x16.6mm, Pitch 1.27mm, IPC High Density)
footprint J67_M (Leaded Chip Carrier, 44-Leads, Body 16.6x16.6mm, Pitch 1.27mm, IPC Low Density)
3D model CY7C371iL-J67 (44-Pin Plastic Leaded Chip Carrier 1.27 mm Pitch)
pins: 1 GND (power), 2 I/O0 (io), 3 I/O1 (io), 4 I/O2 (io), 5 I/O3 (io), 6 I/O4 (io), 7 I/O5/SCLK (io), 8 I/O6 (io), 9 I/O7 (io), 10 IN0 (in), 11 ISREN (in), 12 GND (power), 13 CLK0/IN1 (in), 14 I/O8 (io), 15 I/O9 (io), 16 I/O10 (io), 17 I/O11 (io), 18 I/O12 (io), 19 I/O13/SMODE (io), 20 I/O14 (io), 21 I/O15 (io), 22 VCCINT (power), 23 GND (power), 24 I/O16 (io), 25 I/O17 (io), 26 I/O18 (io), 27 I/O19/SDO (io), 28 I/O20 (io), 29 I/O21 (io), 30 I/O22 (io), 31 I/O23 (io), 32 IN2 (in), 33 IN3 (in), 34 GND (power), 35 CLK1/IN4 (in), 36 I/O24 (io), 37 I/O25 (io), 38 I/O26 (io), 39 I/O27/SDI (io), 40 I/O28 (io), 41 I/O29 (io), 42 I/O30 (io), 43 I/O31 (io), 44 VCCIO (power)
text: Block A; Block B

## CY7C371iL-83JI
designator U?
Ultralogic 32-Macrocell Flash CPLD; Published: 11-Dec-2002; LatestRevisionDate: 13-Apr-2006; LatestRevisionNote: IPC-7351 Footprint Added.; DatasheetVersion: 10-Jul-2000; PackageVersion: Mar-2001; PackageReference: J67; Publisher: Altium Limited; PackageDescription: 44-Pin Plastic Leaded Chip Carrier 1.27 mm Pitch; ComponentLink1Description: Manufacturer Link; ComponentLink1URL: http://www.cypress.com/
footprint J67_N (Leaded Chip Carrier, 44-Leads, Body 16.6x16.6mm, Pitch 1.27mm, IPC Medium Density)
footprint J67_L (Leaded Chip Carrier, 44-Leads, Body 16.6x16.6mm, Pitch 1.27mm, IPC High Density)
footprint J67_M (Leaded Chip Carrier, 44-Leads, Body 16.6x16.6mm, Pitch 1.27mm, IPC Low Density)
3D model CY7C371iL-J67 (44-Pin Plastic Leaded Chip Carrier 1.27 mm Pitch)
pins: 1 GND (power), 2 I/O0 (io), 3 I/O1 (io), 4 I/O2 (io), 5 I/O3 (io), 6 I/O4 (io), 7 I/O5/SCLK (io), 8 I/O6 (io), 9 I/O7 (io), 10 IN0 (in), 11 ISREN (in), 12 GND (power), 13 CLK0/IN1 (in), 14 I/O8 (io), 15 I/O9 (io), 16 I/O10 (io), 17 I/O11 (io), 18 I/O12 (io), 19 I/O13/SMODE (io), 20 I/O14 (io), 21 I/O15 (io), 22 VCCINT (power), 23 GND (power), 24 I/O16 (io), 25 I/O17 (io), 26 I/O18 (io), 27 I/O19/SDO (io), 28 I/O20 (io), 29 I/O21 (io), 30 I/O22 (io), 31 I/O23 (io), 32 IN2 (in), 33 IN3 (in), 34 GND (power), 35 CLK1/IN4 (in), 36 I/O24 (io), 37 I/O25 (io), 38 I/O26 (io), 39 I/O27/SDI (io), 40 I/O28 (io), 41 I/O29 (io), 42 I/O30 (io), 43 I/O31 (io), 44 VCCIO (power)
text: Block A; Block B

## CY7C372i-66JC
designator U?
Ultralogic 64-Macrocell Flash CPLD; Published: 11-Dec-2002; LatestRevisionDate: 13-Apr-2006; LatestRevisionNote: IPC-7351 Footprint Added.; DatasheetVersion: 10-Jul-2000; PackageVersion: Mar-2001; PackageReference: J67; Publisher: Altium Limited; PackageDescription: 44-Pin Plastic Leaded Chip Carrier 1.27 mm Pitch; ComponentLink1Description: Manufacturer Link; ComponentLink1URL: http://www.cypress.com/
footprint J67_N (Leaded Chip Carrier, 44-Leads, Body 16.6x16.6mm, Pitch 1.27mm, IPC Medium Density)
footprint J67_L (Leaded Chip Carrier, 44-Leads, Body 16.6x16.6mm, Pitch 1.27mm, IPC High Density)
footprint J67_M (Leaded Chip Carrier, 44-Leads, Body 16.6x16.6mm, Pitch 1.27mm, IPC Low Density)
3D model CY7C372i-J67 (44-Pin Plastic Leaded Chip Carrier 1.27 mm Pitch)
pins: 1 GND (power), 2 I/O0 (io), 3 I/O1 (io), 4 I/O2 (io), 5 I/O3 (io), 6 I/O4 (io), 7 I/O5/SCLK (io), 8 I/O6 (io), 9 I/O7 (io), 10 IN0 (in), 11 ISREN (in), 12 GND (power), 13 CLK0/IN1 (in), 14 I/O8 (io), 15 I/O9 (io), 16 I/O10 (io), 17 I/O11 (io), 18 I/O12 (io), 19 I/O13/SMODE (io), 20 I/O14 (io), 21 I/O15 (io), 22 VCCINT (power), 23 GND (power), 24 I/O16 (io), 25 I/O17 (io), 26 I/O18 (io), 27 I/O19/SDO (io), 28 I/O20 (io), 29 I/O21 (io), 30 I/O22 (io), 31 I/O23 (io), 32 IN2 (in), 33 IN3 (in), 34 GND (power), 35 CLK1/IN4 (in), 36 I/O24 (io), 37 I/O25 (io), 38 I/O26 (io), 39 I/O27/SDI (io), 40 I/O28 (io), 41 I/O29 (io), 42 I/O30 (io), 43 I/O31 (io), 44 VCCIO (power)
text: Block A; Block D; Block B; Block C

## CY7C372i-66JI
designator U?
Ultralogic 64-Macrocell Flash CPLD; Published: 11-Dec-2002; LatestRevisionDate: 13-Apr-2006; LatestRevisionNote: IPC-7351 Footprint Added.; DatasheetVersion: 10-Jul-2000; PackageVersion: Mar-2001; PackageReference: J67; Publisher: Altium Limited; PackageDescription: 44-Pin Plastic Leaded Chip Carrier 1.27 mm Pitch; ComponentLink1Description: Manufacturer Link; ComponentLink1URL: http://www.cypress.com/
footprint J67_N (Leaded Chip Carrier, 44-Leads, Body 16.6x16.6mm, Pitch 1.27mm, IPC Medium Density)
footprint J67_L (Leaded Chip Carrier, 44-Leads, Body 16.6x16.6mm, Pitch 1.27mm, IPC High Density)
footprint J67_M (Leaded Chip Carrier, 44-Leads, Body 16.6x16.6mm, Pitch 1.27mm, IPC Low Density)
3D model CY7C372i-J67 (44-Pin Plastic Leaded Chip Carrier 1.27 mm Pitch)
pins: 1 GND (power), 2 I/O0 (io), 3 I/O1 (io), 4 I/O2 (io), 5 I/O3 (io), 6 I/O4 (io), 7 I/O5/SCLK (io), 8 I/O6 (io), 9 I/O7 (io), 10 IN0 (in), 11 ISREN (in), 12 GND (power), 13 CLK0/IN1 (in), 14 I/O8 (io), 15 I/O9 (io), 16 I/O10 (io), 17 I/O11 (io), 18 I/O12 (io), 19 I/O13/SMODE (io), 20 I/O14 (io), 21 I/O15 (io), 22 VCCINT (power), 23 GND (power), 24 I/O16 (io), 25 I/O17 (io), 26 I/O18 (io), 27 I/O19/SDO (io), 28 I/O20 (io), 29 I/O21 (io), 30 I/O22 (io), 31 I/O23 (io), 32 IN2 (in), 33 IN3 (in), 34 GND (power), 35 CLK1/IN4 (in), 36 I/O24 (io), 37 I/O25 (io), 38 I/O26 (io), 39 I/O27/SDI (io), 40 I/O28 (io), 41 I/O29 (io), 42 I/O30 (io), 43 I/O31 (io), 44 VCCIO (power)
text: Block A; Block D; Block B; Block C

## CY7C372i-66YMB
designator U?
Ultralogic 64-Macrocell Flash CPLD; Published: 11-Dec-2002; LatestRevisionDate: 13-Apr-2006; LatestRevisionNote: IPC-7351 Footprint Added.; DatasheetVersion: 10-Jul-2000; PackageVersion: Mar-2001; PackageReference: Y67; Publisher: Altium Limited; PackageDescription: 44-Pin Ceramic Leaded Chip Carrier 1.27 mm Pitch; ComponentLink1Description: Manufacturer Link; ComponentLink1URL: http://www.cypress.com/
footprint Y67_N (Leaded Chip Carrier, 44-Leads, Body 16.5x16.5mm, Pitch 1.27mm, IPC Medium Density)
footprint Y67_L (Leaded Chip Carrier, 44-Leads, Body 16.5x16.5mm, Pitch 1.27mm, IPC High Density)
footprint Y67_M (Leaded Chip Carrier, 44-Leads, Body 16.5x16.5mm, Pitch 1.27mm, IPC Low Density)
3D model CY7C372i-Y67 (44-Pin Ceramic Leaded Chip Carrier 1.27 mm Pitch)
pins: 1 GND (power), 2 I/O0 (io), 3 I/O1 (io), 4 I/O2 (io), 5 I/O3 (io), 6 I/O4 (io), 7 I/O5/SCLK (io), 8 I/O6 (io), 9 I/O7 (io), 10 IN0 (in), 11 ISREN (in), 12 GND (power), 13 CLK0/IN1 (in), 14 I/O8 (io), 15 I/O9 (io), 16 I/O10 (io), 17 I/O11 (io), 18 I/O12 (io), 19 I/O13/SMODE (io), 20 I/O14 (io), 21 I/O15 (io), 22 VCC (power), 23 GND (power), 24 I/O16 (io), 25 I/O17 (io), 26 I/O18 (io), 27 I/O19/SDO (io), 28 I/O20 (io), 29 I/O21 (io), 30 I/O22 (io), 31 I/O23 (io), 32 IN2 (in), 33 IN3 (in), 34 GND (power), 35 CLK1/IN4 (in), 36 I/O24 (io), 37 I/O25 (io), 38 I/O26 (io), 39 I/O27/SDI (io), 40 I/O28 (io), 41 I/O29 (io), 42 I/O30 (io), 43 I/O31 (io), 44 VCC (power)
text: Block A; Block D; Block B; Block C

## CY7C372i-83JC
designator U?
Ultralogic 64-Macrocell Flash CPLD; Published: 11-Dec-2002; LatestRevisionDate: 13-Apr-2006; LatestRevisionNote: IPC-7351 Footprint Added.; DatasheetVersion: 10-Jul-2000; PackageVersion: Mar-2001; PackageReference: J67; Publisher: Altium Limited; PackageDescription: 44-Pin Plastic Leaded Chip Carrier 1.27 mm Pitch; ComponentLink1Description: Manufacturer Link; ComponentLink1URL: http://www.cypress.com/
footprint J67_N (Leaded Chip Carrier, 44-Leads, Body 16.6x16.6mm, Pitch 1.27mm, IPC Medium Density)
footprint J67_L (Leaded Chip Carrier, 44-Leads, Body 16.6x16.6mm, Pitch 1.27mm, IPC High Density)
footprint J67_M (Leaded Chip Carrier, 44-Leads, Body 16.6x16.6mm, Pitch 1.27mm, IPC Low Density)
3D model CY7C372i-J67 (44-Pin Plastic Leaded Chip Carrier 1.27 mm Pitch)
pins: 1 GND (power), 2 I/O0 (io), 3 I/O1 (io), 4 I/O2 (io), 5 I/O3 (io), 6 I/O4 (io), 7 I/O5/SCLK (io), 8 I/O6 (io), 9 I/O7 (io), 10 IN0 (in), 11 ISREN (in), 12 GND (power), 13 CLK0/IN1 (in), 14 I/O8 (io), 15 I/O9 (io), 16 I/O10 (io), 17 I/O11 (io), 18 I/O12 (io), 19 I/O13/SMODE (io), 20 I/O14 (io), 21 I/O15 (io), 22 VCCINT (power), 23 GND (power), 24 I/O16 (io), 25 I/O17 (io), 26 I/O18 (io), 27 I/O19/SDO (io), 28 I/O20 (io), 29 I/O21 (io), 30 I/O22 (io), 31 I/O23 (io), 32 IN2 (in), 33 IN3 (in), 34 GND (power), 35 CLK1/IN4 (in), 36 I/O24 (io), 37 I/O25 (io), 38 I/O26 (io), 39 I/O27/SDI (io), 40 I/O28 (io), 41 I/O29 (io), 42 I/O30 (io), 43 I/O31 (io), 44 VCCIO (power)
text: Block A; Block D; Block B; Block C

## CY7C372i-83JI
designator U?
Ultralogic 64-Macrocell Flash CPLD; Published: 11-Dec-2002; LatestRevisionDate: 13-Apr-2006; LatestRevisionNote: IPC-7351 Footprint Added.; DatasheetVersion: 10-Jul-2000; PackageVersion: Mar-2001; PackageReference: J67; Publisher: Altium Limited; PackageDescription: 44-Pin Plastic Leaded Chip Carrier 1.27 mm Pitch; ComponentLink1Description: Manufacturer Link; ComponentLink1URL: http://www.cypress.com/
footprint J67_N (Leaded Chip Carrier, 44-Leads, Body 16.6x16.6mm, Pitch 1.27mm, IPC Medium Density)
footprint J67_L (Leaded Chip Carrier, 44-Leads, Body 16.6x16.6mm, Pitch 1.27mm, IPC High Density)
footprint J67_M (Leaded Chip Carrier, 44-Leads, Body 16.6x16.6mm, Pitch 1.27mm, IPC Low Density)
3D model CY7C372i-J67 (44-Pin Plastic Leaded Chip Carrier 1.27 mm Pitch)
pins: 1 GND (power), 2 I/O0 (io), 3 I/O1 (io), 4 I/O2 (io), 5 I/O3 (io), 6 I/O4 (io), 7 I/O5/SCLK (io), 8 I/O6 (io), 9 I/O7 (io), 10 IN0 (in), 11 ISREN (in), 12 GND (power), 13 CLK0/IN1 (in), 14 I/O8 (io), 15 I/O9 (io), 16 I/O10 (io), 17 I/O11 (io), 18 I/O12 (io), 19 I/O13/SMODE (io), 20 I/O14 (io), 21 I/O15 (io), 22 VCCINT (power), 23 GND (power), 24 I/O16 (io), 25 I/O17 (io), 26 I/O18 (io), 27 I/O19/SDO (io), 28 I/O20 (io), 29 I/O21 (io), 30 I/O22 (io), 31 I/O23 (io), 32 IN2 (in), 33 IN3 (in), 34 GND (power), 35 CLK1/IN4 (in), 36 I/O24 (io), 37 I/O25 (io), 38 I/O26 (io), 39 I/O27/SDI (io), 40 I/O28 (io), 41 I/O29 (io), 42 I/O30 (io), 43 I/O31 (io), 44 VCCIO (power)
text: Block A; Block D; Block B; Block C

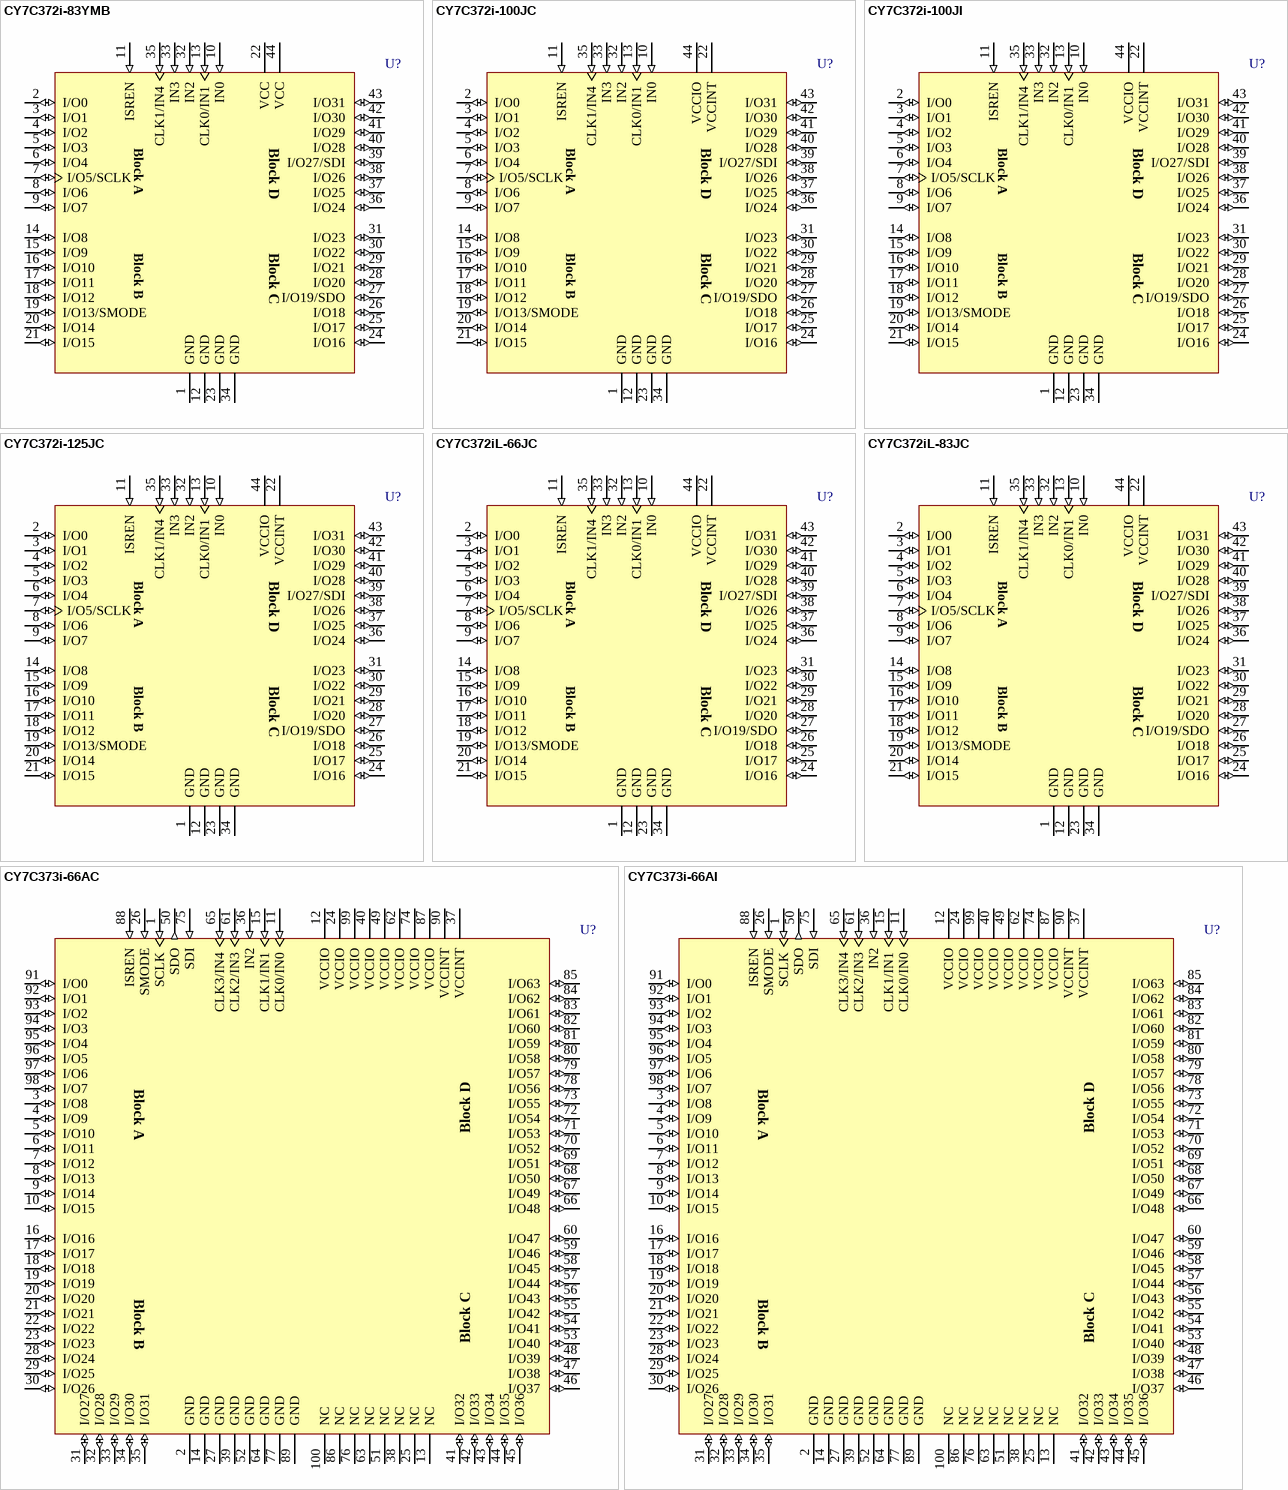
[diagram p3: symbols CY7C372i-83YMB to CY7C373i-66AI]

## CY7C372i-83YMB
designator U?
Ultralogic 64-Macrocell Flash CPLD; Published: 11-Dec-2002; LatestRevisionDate: 13-Apr-2006; LatestRevisionNote: IPC-7351 Footprint Added.; DatasheetVersion: 10-Jul-2000; PackageVersion: Mar-2001; PackageReference: Y67; Publisher: Altium Limited; PackageDescription: 44-Pin Ceramic Leaded Chip Carrier 1.27 mm Pitch; ComponentLink1Description: Manufacturer Link; ComponentLink1URL: http://www.cypress.com/
footprint Y67_N (Leaded Chip Carrier, 44-Leads, Body 16.5x16.5mm, Pitch 1.27mm, IPC Medium Density)
footprint Y67_L (Leaded Chip Carrier, 44-Leads, Body 16.5x16.5mm, Pitch 1.27mm, IPC High Density)
footprint Y67_M (Leaded Chip Carrier, 44-Leads, Body 16.5x16.5mm, Pitch 1.27mm, IPC Low Density)
3D model CY7C372i-Y67 (44-Pin Ceramic Leaded Chip Carrier 1.27 mm Pitch)
pins: 1 GND (power), 2 I/O0 (io), 3 I/O1 (io), 4 I/O2 (io), 5 I/O3 (io), 6 I/O4 (io), 7 I/O5/SCLK (io), 8 I/O6 (io), 9 I/O7 (io), 10 IN0 (in), 11 ISREN (in), 12 GND (power), 13 CLK0/IN1 (in), 14 I/O8 (io), 15 I/O9 (io), 16 I/O10 (io), 17 I/O11 (io), 18 I/O12 (io), 19 I/O13/SMODE (io), 20 I/O14 (io), 21 I/O15 (io), 22 VCC (power), 23 GND (power), 24 I/O16 (io), 25 I/O17 (io), 26 I/O18 (io), 27 I/O19/SDO (io), 28 I/O20 (io), 29 I/O21 (io), 30 I/O22 (io), 31 I/O23 (io), 32 IN2 (in), 33 IN3 (in), 34 GND (power), 35 CLK1/IN4 (in), 36 I/O24 (io), 37 I/O25 (io), 38 I/O26 (io), 39 I/O27/SDI (io), 40 I/O28 (io), 41 I/O29 (io), 42 I/O30 (io), 43 I/O31 (io), 44 VCC (power)
text: Block A; Block D; Block B; Block C

## CY7C372i-100JC
designator U?
Ultralogic 64-Macrocell Flash CPLD; Published: 11-Dec-2002; LatestRevisionDate: 13-Apr-2006; LatestRevisionNote: IPC-7351 Footprint Added.; DatasheetVersion: 10-Jul-2000; PackageVersion: Mar-2001; PackageReference: J67; Publisher: Altium Limited; PackageDescription: 44-Pin Plastic Leaded Chip Carrier 1.27 mm Pitch; ComponentLink1Description: Manufacturer Link; ComponentLink1URL: http://www.cypress.com/
footprint J67_N (Leaded Chip Carrier, 44-Leads, Body 16.6x16.6mm, Pitch 1.27mm, IPC Medium Density)
footprint J67_L (Leaded Chip Carrier, 44-Leads, Body 16.6x16.6mm, Pitch 1.27mm, IPC High Density)
footprint J67_M (Leaded Chip Carrier, 44-Leads, Body 16.6x16.6mm, Pitch 1.27mm, IPC Low Density)
3D model CY7C372i-J67 (44-Pin Plastic Leaded Chip Carrier 1.27 mm Pitch)
pins: 1 GND (power), 2 I/O0 (io), 3 I/O1 (io), 4 I/O2 (io), 5 I/O3 (io), 6 I/O4 (io), 7 I/O5/SCLK (io), 8 I/O6 (io), 9 I/O7 (io), 10 IN0 (in), 11 ISREN (in), 12 GND (power), 13 CLK0/IN1 (in), 14 I/O8 (io), 15 I/O9 (io), 16 I/O10 (io), 17 I/O11 (io), 18 I/O12 (io), 19 I/O13/SMODE (io), 20 I/O14 (io), 21 I/O15 (io), 22 VCCINT (power), 23 GND (power), 24 I/O16 (io), 25 I/O17 (io), 26 I/O18 (io), 27 I/O19/SDO (io), 28 I/O20 (io), 29 I/O21 (io), 30 I/O22 (io), 31 I/O23 (io), 32 IN2 (in), 33 IN3 (in), 34 GND (power), 35 CLK1/IN4 (in), 36 I/O24 (io), 37 I/O25 (io), 38 I/O26 (io), 39 I/O27/SDI (io), 40 I/O28 (io), 41 I/O29 (io), 42 I/O30 (io), 43 I/O31 (io), 44 VCCIO (power)
text: Block A; Block D; Block B; Block C

## CY7C372i-100JI
designator U?
Ultralogic 64-Macrocell Flash CPLD; Published: 11-Dec-2002; LatestRevisionDate: 13-Apr-2006; LatestRevisionNote: IPC-7351 Footprint Added.; DatasheetVersion: 10-Jul-2000; PackageVersion: Mar-2001; PackageReference: J67; Publisher: Altium Limited; PackageDescription: 44-Pin Plastic Leaded Chip Carrier 1.27 mm Pitch; ComponentLink1Description: Manufacturer Link; ComponentLink1URL: http://www.cypress.com/
footprint J67_N (Leaded Chip Carrier, 44-Leads, Body 16.6x16.6mm, Pitch 1.27mm, IPC Medium Density)
footprint J67_L (Leaded Chip Carrier, 44-Leads, Body 16.6x16.6mm, Pitch 1.27mm, IPC High Density)
footprint J67_M (Leaded Chip Carrier, 44-Leads, Body 16.6x16.6mm, Pitch 1.27mm, IPC Low Density)
3D model CY7C372i-J67 (44-Pin Plastic Leaded Chip Carrier 1.27 mm Pitch)
pins: 1 GND (power), 2 I/O0 (io), 3 I/O1 (io), 4 I/O2 (io), 5 I/O3 (io), 6 I/O4 (io), 7 I/O5/SCLK (io), 8 I/O6 (io), 9 I/O7 (io), 10 IN0 (in), 11 ISREN (in), 12 GND (power), 13 CLK0/IN1 (in), 14 I/O8 (io), 15 I/O9 (io), 16 I/O10 (io), 17 I/O11 (io), 18 I/O12 (io), 19 I/O13/SMODE (io), 20 I/O14 (io), 21 I/O15 (io), 22 VCCINT (power), 23 GND (power), 24 I/O16 (io), 25 I/O17 (io), 26 I/O18 (io), 27 I/O19/SDO (io), 28 I/O20 (io), 29 I/O21 (io), 30 I/O22 (io), 31 I/O23 (io), 32 IN2 (in), 33 IN3 (in), 34 GND (power), 35 CLK1/IN4 (in), 36 I/O24 (io), 37 I/O25 (io), 38 I/O26 (io), 39 I/O27/SDI (io), 40 I/O28 (io), 41 I/O29 (io), 42 I/O30 (io), 43 I/O31 (io), 44 VCCIO (power)
text: Block A; Block D; Block B; Block C

## CY7C372i-125JC
designator U?
Ultralogic 64-Macrocell Flash CPLD; Published: 11-Dec-2002; LatestRevisionDate: 13-Apr-2006; LatestRevisionNote: IPC-7351 Footprint Added.; DatasheetVersion: 10-Jul-2000; PackageVersion: Mar-2001; PackageReference: J67; Publisher: Altium Limited; PackageDescription: 44-Pin Plastic Leaded Chip Carrier 1.27 mm Pitch; ComponentLink1Description: Manufacturer Link; ComponentLink1URL: http://www.cypress.com/
footprint J67_N (Leaded Chip Carrier, 44-Leads, Body 16.6x16.6mm, Pitch 1.27mm, IPC Medium Density)
footprint J67_L (Leaded Chip Carrier, 44-Leads, Body 16.6x16.6mm, Pitch 1.27mm, IPC High Density)
footprint J67_M (Leaded Chip Carrier, 44-Leads, Body 16.6x16.6mm, Pitch 1.27mm, IPC Low Density)
3D model CY7C372i-J67 (44-Pin Plastic Leaded Chip Carrier 1.27 mm Pitch)
pins: 1 GND (power), 2 I/O0 (io), 3 I/O1 (io), 4 I/O2 (io), 5 I/O3 (io), 6 I/O4 (io), 7 I/O5/SCLK (io), 8 I/O6 (io), 9 I/O7 (io), 10 IN0 (in), 11 ISREN (in), 12 GND (power), 13 CLK0/IN1 (in), 14 I/O8 (io), 15 I/O9 (io), 16 I/O10 (io), 17 I/O11 (io), 18 I/O12 (io), 19 I/O13/SMODE (io), 20 I/O14 (io), 21 I/O15 (io), 22 VCCINT (power), 23 GND (power), 24 I/O16 (io), 25 I/O17 (io), 26 I/O18 (io), 27 I/O19/SDO (io), 28 I/O20 (io), 29 I/O21 (io), 30 I/O22 (io), 31 I/O23 (io), 32 IN2 (in), 33 IN3 (in), 34 GND (power), 35 CLK1/IN4 (in), 36 I/O24 (io), 37 I/O25 (io), 38 I/O26 (io), 39 I/O27/SDI (io), 40 I/O28 (io), 41 I/O29 (io), 42 I/O30 (io), 43 I/O31 (io), 44 VCCIO (power)
text: Block A; Block D; Block B; Block C

## CY7C372iL-66JC
designator U?
Ultralogic 64-Macrocell Flash CPLD; Published: 11-Dec-2002; LatestRevisionDate: 13-Apr-2006; LatestRevisionNote: IPC-7351 Footprint Added.; DatasheetVersion: 10-Jul-2000; PackageVersion: Mar-2001; PackageReference: J67; Publisher: Altium Limited; PackageDescription: 44-Pin Plastic Leaded Chip Carrier 1.27 mm Pitch; ComponentLink1Description: Manufacturer Link; ComponentLink1URL: http://www.cypress.com/
footprint J67_N (Leaded Chip Carrier, 44-Leads, Body 16.6x16.6mm, Pitch 1.27mm, IPC Medium Density)
footprint J67_L (Leaded Chip Carrier, 44-Leads, Body 16.6x16.6mm, Pitch 1.27mm, IPC High Density)
footprint J67_M (Leaded Chip Carrier, 44-Leads, Body 16.6x16.6mm, Pitch 1.27mm, IPC Low Density)
3D model CY7C372iL-J67 (44-Pin Plastic Leaded Chip Carrier 1.27 mm Pitch)
pins: 1 GND (power), 2 I/O0 (io), 3 I/O1 (io), 4 I/O2 (io), 5 I/O3 (io), 6 I/O4 (io), 7 I/O5/SCLK (io), 8 I/O6 (io), 9 I/O7 (io), 10 IN0 (in), 11 ISREN (in), 12 GND (power), 13 CLK0/IN1 (in), 14 I/O8 (io), 15 I/O9 (io), 16 I/O10 (io), 17 I/O11 (io), 18 I/O12 (io), 19 I/O13/SMODE (io), 20 I/O14 (io), 21 I/O15 (io), 22 VCCINT (power), 23 GND (power), 24 I/O16 (io), 25 I/O17 (io), 26 I/O18 (io), 27 I/O19/SDO (io), 28 I/O20 (io), 29 I/O21 (io), 30 I/O22 (io), 31 I/O23 (io), 32 IN2 (in), 33 IN3 (in), 34 GND (power), 35 CLK1/IN4 (in), 36 I/O24 (io), 37 I/O25 (io), 38 I/O26 (io), 39 I/O27/SDI (io), 40 I/O28 (io), 41 I/O29 (io), 42 I/O30 (io), 43 I/O31 (io), 44 VCCIO (power)
text: Block A; Block D; Block B; Block C

## CY7C372iL-83JC
designator U?
Ultralogic 64-Macrocell Flash CPLD; Published: 11-Dec-2002; LatestRevisionDate: 13-Apr-2006; LatestRevisionNote: IPC-7351 Footprint Added.; DatasheetVersion: 10-Jul-2000; PackageVersion: Mar-2001; PackageReference: J67; Publisher: Altium Limited; PackageDescription: 44-Pin Plastic Leaded Chip Carrier 1.27 mm Pitch; ComponentLink1Description: Manufacturer Link; ComponentLink1URL: http://www.cypress.com/
footprint J67_N (Leaded Chip Carrier, 44-Leads, Body 16.6x16.6mm, Pitch 1.27mm, IPC Medium Density)
footprint J67_L (Leaded Chip Carrier, 44-Leads, Body 16.6x16.6mm, Pitch 1.27mm, IPC High Density)
footprint J67_M (Leaded Chip Carrier, 44-Leads, Body 16.6x16.6mm, Pitch 1.27mm, IPC Low Density)
3D model CY7C372iL-J67 (44-Pin Plastic Leaded Chip Carrier 1.27 mm Pitch)
pins: 1 GND (power), 2 I/O0 (io), 3 I/O1 (io), 4 I/O2 (io), 5 I/O3 (io), 6 I/O4 (io), 7 I/O5/SCLK (io), 8 I/O6 (io), 9 I/O7 (io), 10 IN0 (in), 11 ISREN (in), 12 GND (power), 13 CLK0/IN1 (in), 14 I/O8 (io), 15 I/O9 (io), 16 I/O10 (io), 17 I/O11 (io), 18 I/O12 (io), 19 I/O13/SMODE (io), 20 I/O14 (io), 21 I/O15 (io), 22 VCCINT (power), 23 GND (power), 24 I/O16 (io), 25 I/O17 (io), 26 I/O18 (io), 27 I/O19/SDO (io), 28 I/O20 (io), 29 I/O21 (io), 30 I/O22 (io), 31 I/O23 (io), 32 IN2 (in), 33 IN3 (in), 34 GND (power), 35 CLK1/IN4 (in), 36 I/O24 (io), 37 I/O25 (io), 38 I/O26 (io), 39 I/O27/SDI (io), 40 I/O28 (io), 41 I/O29 (io), 42 I/O30 (io), 43 I/O31 (io), 44 VCCIO (power)
text: Block A; Block D; Block B; Block C